# Altium integrated library Capacitor_0402.IntLib: 4 symbols
Pins are listed as number, name and electrical type; pins without a type are passive.

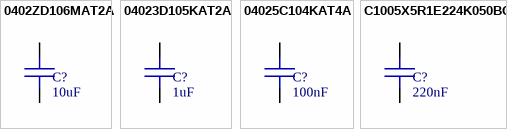
[diagram p0: symbols 0402ZD106MAT2A to C1005X5R1E224K050BC]

## 0402ZD106MAT2A
designator C?, comment 10uF
0402ZD106MAT2A; Mfr_Name: TDK
footprint C0402
pins: 1, 2

## 04023D105KAT2A
designator C?, comment 1uF
04023D105KAT2A; Mfr_Name: TDK
footprint C0402
pins: 1, 2

## 04025C104KAT4A
designator C?, comment 100nF
04025C104KAT4A; Mfr_Name: TDK
footprint C0402
pins: 1, 2

## C1005X5R1E224K050BC
designator C?, comment 220nF
C1005X5R1E224K050BC; Mfr_Name: TDK
footprint C0402
pins: 1, 2